# Altium schematic symbol library lm5164qddatq1.SchLib: 1 symbol
Pins are listed as number, name and electrical type; pins without a type are passive.

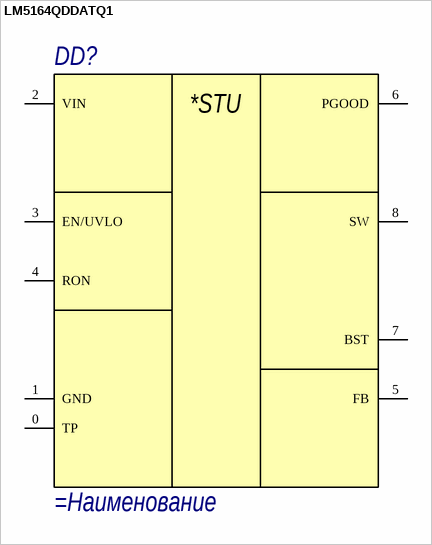
[diagram p0: symbol LM5164QDDATQ1]

## LM5164QDDATQ1
designator DD?
=Описание
pins: 0 TP, 1 GND, 2 VIN, 3 EN/UVLO, 4 RON, 5 FB, 6 PGOOD, 7 BST, 8 SW
text: *STU